# Altium footprint library Real-Time Clocks (RTCs).PcbLib: 185 footprints (part 2 of 12)
Each footprint in its own frame and in the unit in brackets; x right, y up, seen from the top. Pads: shape width x height; smd on the part's side, far side on the other; paste and mask are expansions set on the pad; w line width, h text height; cw(c..) or ccw(c..) is an arc to the next point about the centre after c.
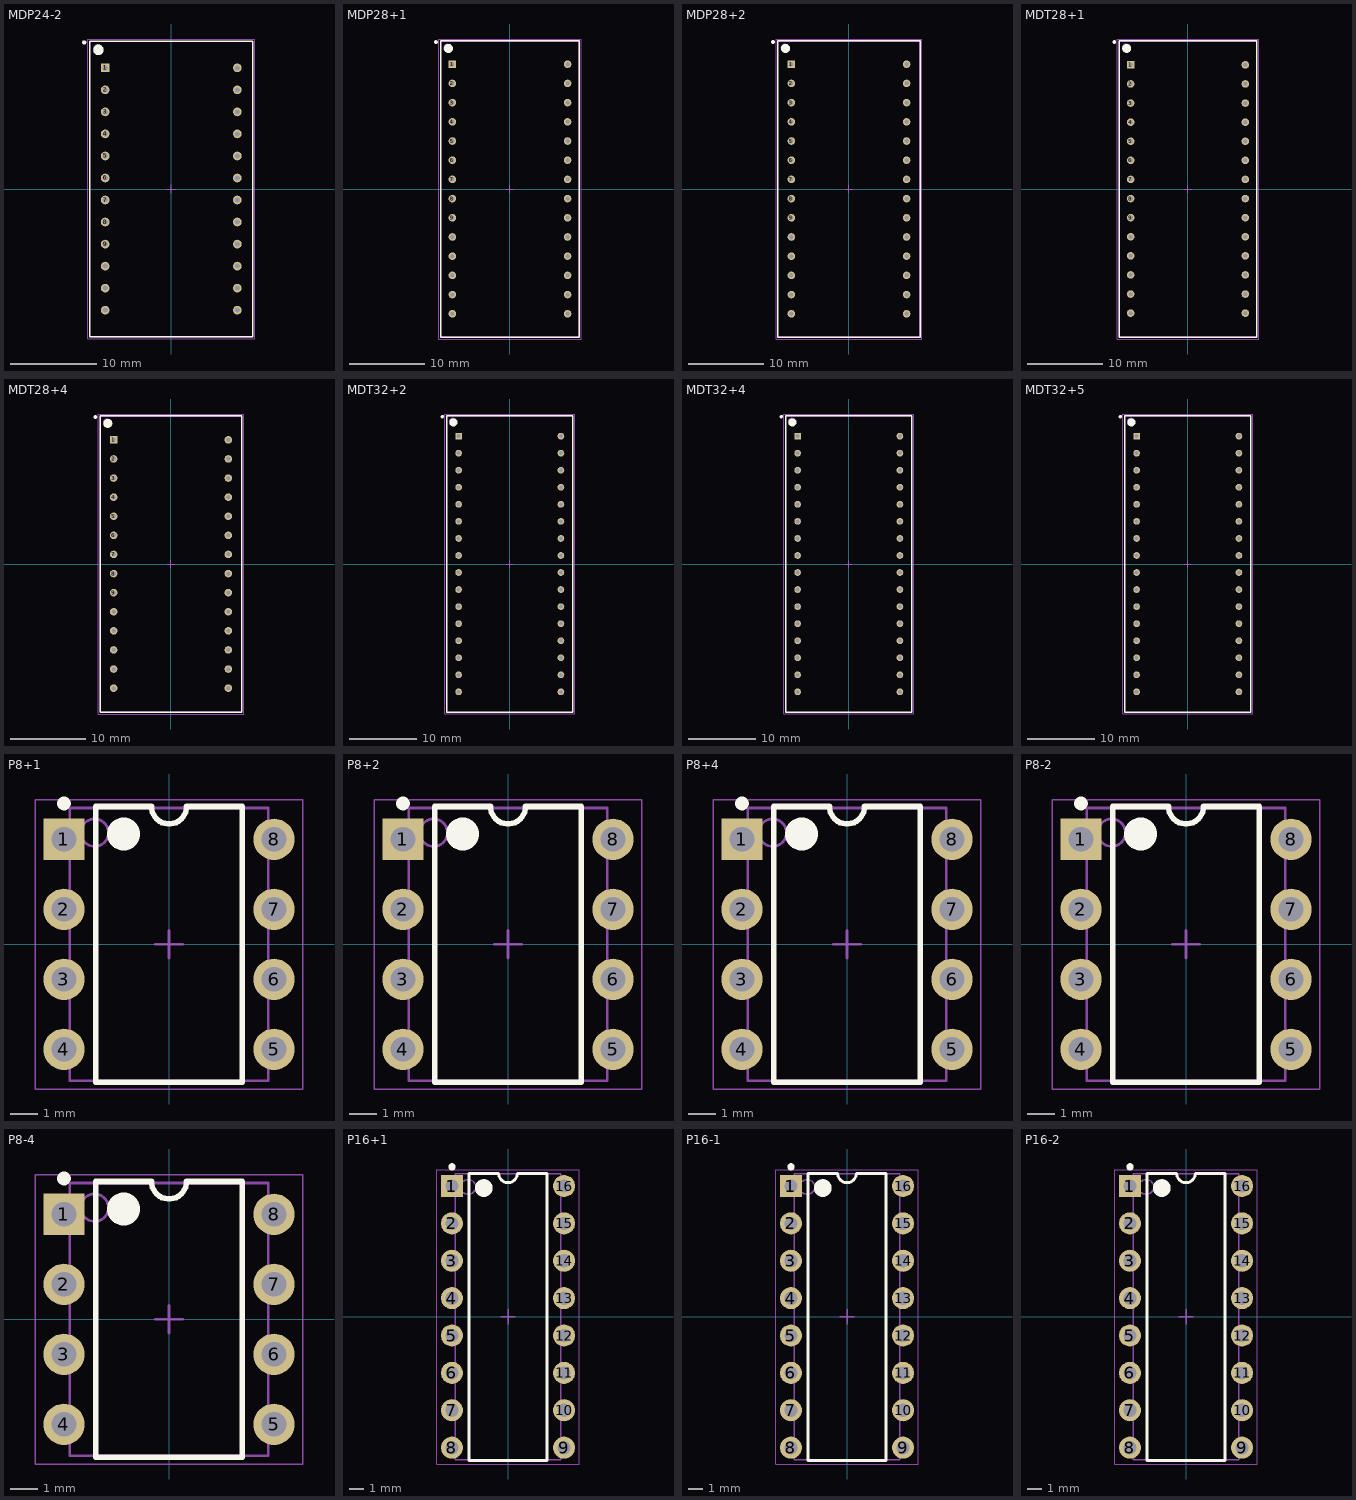
[diagram p1: the footprints below, top view; thin cyan lines are the x and y axes]

## MDP24-2 [mm] "DIP; 24 Rectangular Pins, Body 33.8x18.5mm, Row Space 15.24mm, Pitch 2.54mm"
height 9.4
pads (24):
  rect 1x1 hole 0.6: 1(-7.62,13.97)
  round 1 hole 0.6: 2(-7.62,11.43) 3(-7.62,8.89) 4(-7.62,6.35) 5(-7.62,3.81) 6(-7.62,1.27) 7(-7.62,-1.27) 8(-7.62,-3.81) 9(-7.62,-6.35) 10(-7.62,-8.89) 11(-7.62,-11.43) 12(-7.62,-13.97) 13(7.62,-13.97) 14(7.62,-11.43) 15(7.62,-8.89) 16(7.62,-6.35) 17(7.62,-3.81) 18(7.62,-1.27) 19(7.62,1.27) 20(7.62,3.81) 21(7.62,6.35) 22(7.62,8.89) 23(7.62,11.43) 24(7.62,13.97)
Top Overlay:
  circle w0.25: c-10.05,16.9 r0.125
  circle w0.6: c-8.4,16.05 r0.3
  lines w0.2: -9.4,-17.05 -9.4,17.05 9.4,17.05 9.4,-17.05 -9.4,-17.05
Mechanical 13:
  circle w0.1: c-8.5,16.125 r0.5
  lines w0.1: -9.4,-17.025 -9.4,17.025 9.4,17.025 9.4,-17.025 -9.4,-17.025
Mechanical 15:
  lines w0.05: -9.65,-17.3 -9.65,17.3 9.65,17.3 9.65,-17.3 -9.65,-17.3
  lines w0.1: -0.5,0 0.5,0 ; 0,-0.5 0,0.5
3D body: height 9.4, standoff 0.25, extent -9.4,-17.025 9.4,17.025

## MDP28+1 [mm] "DIP; 28 Rectangular Pins, Body 38.9x17.8mm, Row Space 15.24mm, Pitch 2.54mm"
height 9.4
pads (28):
  rect 1x1 hole 0.6: 1(-7.62,16.51)
  round 1 hole 0.6: 2(-7.62,13.97) 3(-7.62,11.43) 4(-7.62,8.89) 5(-7.62,6.35) 6(-7.62,3.81) 7(-7.62,1.27) 8(-7.62,-1.27) 9(-7.62,-3.81) 10(-7.62,-6.35) 11(-7.62,-8.89) 12(-7.62,-11.43) 13(-7.62,-13.97) 14(-7.62,-16.51) 15(7.62,-16.51) 16(7.62,-13.97) 17(7.62,-11.43) 18(7.62,-8.89) 19(7.62,-6.35) 20(7.62,-3.81) 21(7.62,-1.27) 22(7.62,1.27) 23(7.62,3.81) 24(7.62,6.35) 25(7.62,8.89) 26(7.62,11.43) 27(7.62,13.97) 28(7.62,16.51)
Top Overlay:
  circle w0.25: c-9.8,19.45 r0.125
  circle w0.6: c-8.15,18.6 r0.3
  lines w0.2: -9.15,-19.6 -9.15,19.6 9.15,19.6 9.15,-19.6 -9.15,-19.6
Mechanical 13:
  circle w0.1: c-8.25,18.65 r0.5
  lines w0.1: -9.15,-19.55 -9.15,19.55 9.15,19.55 9.15,-19.55 -9.15,-19.55
Mechanical 15:
  lines w0.05: -9.4,-19.85 -9.4,19.85 9.4,19.85 9.4,-19.85 -9.4,-19.85
  lines w0.1: -0.5,0 0.5,0 ; 0,-0.5 0,0.5
3D body: height 9.4, standoff 0.25, extent -9.15,-19.55 9.15,19.55

## MDP28+2 [mm] "DIP; 28 Rectangular Pins, Body 38.9x18.5mm, Row Space 15.24mm, Pitch 2.54mm"
height 9.4
pads (28):
  rect 1x1 hole 0.6: 1(-7.62,16.51)
  round 1 hole 0.6: 2(-7.62,13.97) 3(-7.62,11.43) 4(-7.62,8.89) 5(-7.62,6.35) 6(-7.62,3.81) 7(-7.62,1.27) 8(-7.62,-1.27) 9(-7.62,-3.81) 10(-7.62,-6.35) 11(-7.62,-8.89) 12(-7.62,-11.43) 13(-7.62,-13.97) 14(-7.62,-16.51) 15(7.62,-16.51) 16(7.62,-13.97) 17(7.62,-11.43) 18(7.62,-8.89) 19(7.62,-6.35) 20(7.62,-3.81) 21(7.62,-1.27) 22(7.62,1.27) 23(7.62,3.81) 24(7.62,6.35) 25(7.62,8.89) 26(7.62,11.43) 27(7.62,13.97) 28(7.62,16.51)
Top Overlay:
  circle w0.6: c-8.4,18.6 r0.3
  circle w0.25: c-10.05,19.45 r0.125
  lines w0.2: -9.4,-19.6 -9.4,19.6 9.4,19.6 9.4,-19.6 -9.4,-19.6
Mechanical 13:
  circle w0.1: c-8.5,18.65 r0.5
  lines w0.1: -9.4,-19.55 -9.4,19.55 9.4,19.55 9.4,-19.55 -9.4,-19.55
Mechanical 15:
  lines w0.05: -9.65,-19.85 -9.65,19.85 9.65,19.85 9.65,-19.85 -9.65,-19.85
  lines w0.1: -0.5,0 0.5,0 ; 0,-0.5 0,0.5
3D body: height 9.4, standoff 0.25, extent -9.4,-19.55 9.4,19.55

## MDT28+1 [mm] "DIP; 28 Rectangular Pins, Body 38.2x17.8mm, Row Space 15.24mm, Pitch 2.54mm"
height 10.67
pads (28):
  rect 1x1 hole 0.6: 1(-7.62,16.51)
  round 1 hole 0.6: 2(-7.62,13.97) 3(-7.62,11.43) 4(-7.62,8.89) 5(-7.62,6.35) 6(-7.62,3.81) 7(-7.62,1.27) 8(-7.62,-1.27) 9(-7.62,-3.81) 10(-7.62,-6.35) 11(-7.62,-8.89) 12(-7.62,-11.43) 13(-7.62,-13.97) 14(-7.62,-16.51) 15(7.62,-16.51) 16(7.62,-13.97) 17(7.62,-11.43) 18(7.62,-8.89) 19(7.62,-6.35) 20(7.62,-3.81) 21(7.62,-1.27) 22(7.62,1.27) 23(7.62,3.81) 24(7.62,6.35) 25(7.62,8.89) 26(7.62,11.43) 27(7.62,13.97) 28(7.62,16.51)
Top Overlay:
  circle w0.25: c-9.8,19.55 r0.125
  circle w0.6: c-8.15,18.7 r0.3
  lines w0.2: -9.15,-19.7 -9.15,19.7 9.15,19.7 9.15,-19.7 -9.15,-19.7
Mechanical 13:
  circle w0.1: c-8.25,18.775 r0.5
  lines w0.1: -9.15,-19.675 -9.15,19.675 9.15,19.675 9.15,-19.675 -9.15,-19.675
Mechanical 15:
  lines w0.05: -9.4,-19.95 -9.4,19.95 9.4,19.95 9.4,-19.95 -9.4,-19.95
  lines w0.1: -0.5,0 0.5,0 ; 0,-0.5 0,0.5
3D body: height 10.67, standoff 0.25, extent -9.15,-19.675 9.15,19.675

## MDT28+4 [mm] "DIP; 28 Rectangular Pins, Body 38.2x18.5mm, Row Space 15.24mm, Pitch 2.54mm"
height 10.67
pads (28):
  rect 1x1 hole 0.6: 1(-7.62,16.51)
  round 1 hole 0.6: 2(-7.62,13.97) 3(-7.62,11.43) 4(-7.62,8.89) 5(-7.62,6.35) 6(-7.62,3.81) 7(-7.62,1.27) 8(-7.62,-1.27) 9(-7.62,-3.81) 10(-7.62,-6.35) 11(-7.62,-8.89) 12(-7.62,-11.43) 13(-7.62,-13.97) 14(-7.62,-16.51) 15(7.62,-16.51) 16(7.62,-13.97) 17(7.62,-11.43) 18(7.62,-8.89) 19(7.62,-6.35) 20(7.62,-3.81) 21(7.62,-1.27) 22(7.62,1.27) 23(7.62,3.81) 24(7.62,6.35) 25(7.62,8.89) 26(7.62,11.43) 27(7.62,13.97) 28(7.62,16.51)
Top Overlay:
  circle w0.6: c-8.4,18.7 r0.3
  circle w0.25: c-10.05,19.55 r0.125
  lines w0.2: -9.4,-19.7 9.4,-19.7 9.4,19.7 -9.4,19.7 -9.4,-19.7
Mechanical 13:
  circle w0.1: c-8.5,18.775 r0.5
  lines w0.1: -9.4,-19.675 9.4,-19.675 9.4,19.675 -9.4,19.675 -9.4,-19.675
Mechanical 15:
  lines w0.05: -9.65,-19.95 9.65,-19.95 9.65,19.95 -9.65,19.95 -9.65,-19.95
  lines w0.1: -0.5,0 0.5,0 ; 0,-0.5 0,0.5
3D body: height 10.67, standoff 0.25, extent -9.4,-19.675 9.4,19.675

## MDT32+2 [mm] "DIP; 32 Rectangular Pins, Body 43.1x18.5mm, Row Space 15.24mm, Pitch 2.54mm"
height 10.93
pads (32):
  rect 1x1 hole 0.6: 1(-7.62,19.05)
  round 1 hole 0.6: 2(-7.62,16.51) 3(-7.62,13.97) 4(-7.62,11.43) 5(-7.62,8.89) 6(-7.62,6.35) 7(-7.62,3.81) 8(-7.62,1.27) 9(-7.62,-1.27) 10(-7.62,-3.81) 11(-7.62,-6.35) 12(-7.62,-8.89) 13(-7.62,-11.43) 14(-7.62,-13.97) 15(-7.62,-16.51) 16(-7.62,-19.05) 17(7.62,-19.05) 18(7.62,-16.51) 19(7.62,-13.97) 20(7.62,-11.43) 21(7.62,-8.89) 22(7.62,-6.35) 23(7.62,-3.81) 24(7.62,-1.27) 25(7.62,1.27) 26(7.62,3.81) 27(7.62,6.35) 28(7.62,8.89) 29(7.62,11.43) 30(7.62,13.97) 31(7.62,16.51) 32(7.62,19.05)
Top Overlay:
  circle w0.6: c-8.4,21.1 r0.3
  circle w0.25: c-10.05,21.95 r0.125
  lines w0.2: -9.4,-22.1 9.4,-22.1 9.4,22.1 -9.4,22.1 -9.4,-22.1
Mechanical 13:
  circle w0.1: c-8.5,21.2 r0.5
  lines w0.1: -9.4,-22.1 9.4,-22.1 9.4,22.1 -9.4,22.1 -9.4,-22.1
Mechanical 15:
  lines w0.05: -9.65,-22.35 9.65,-22.35 9.65,22.35 -9.65,22.35 -9.65,-22.35
  lines w0.1: -0.5,0 0.5,0 ; 0,-0.5 0,0.5
3D body: height 10.93, standoff 0.25, extent -9.4,-22.1 9.4,22.1

## MDT32+4 [mm] "DIP; 32 Rectangular Pins, Body 43.1x18.5mm, Row Space 15.24mm, Pitch 2.54mm"
height 10.93
pads (32):
  rect 1x1 hole 0.6: 1(-7.62,19.05)
  round 1 hole 0.6: 2(-7.62,16.51) 3(-7.62,13.97) 4(-7.62,11.43) 5(-7.62,8.89) 6(-7.62,6.35) 7(-7.62,3.81) 8(-7.62,1.27) 9(-7.62,-1.27) 10(-7.62,-3.81) 11(-7.62,-6.35) 12(-7.62,-8.89) 13(-7.62,-11.43) 14(-7.62,-13.97) 15(-7.62,-16.51) 16(-7.62,-19.05) 17(7.62,-19.05) 18(7.62,-16.51) 19(7.62,-13.97) 20(7.62,-11.43) 21(7.62,-8.89) 22(7.62,-6.35) 23(7.62,-3.81) 24(7.62,-1.27) 25(7.62,1.27) 26(7.62,3.81) 27(7.62,6.35) 28(7.62,8.89) 29(7.62,11.43) 30(7.62,13.97) 31(7.62,16.51) 32(7.62,19.05)
Top Overlay:
  circle w0.6: c-8.4,21.1 r0.3
  circle w0.25: c-10.05,21.95 r0.125
  lines w0.2: -9.4,-22.1 9.4,-22.1 9.4,22.1 -9.4,22.1 -9.4,-22.1
Mechanical 13:
  circle w0.1: c-8.5,21.2 r0.5
  lines w0.1: -9.4,-22.1 9.4,-22.1 9.4,22.1 -9.4,22.1 -9.4,-22.1
Mechanical 15:
  lines w0.05: -9.65,-22.35 9.65,-22.35 9.65,22.35 -9.65,22.35 -9.65,-22.35
  lines w0.1: -0.5,0 0.5,0 ; 0,-0.5 0,0.5
3D body: height 10.93, standoff 0.25, extent -9.4,-22.1 9.4,22.1

## MDT32+5 [mm] "DIP; 32 Rectangular Pins, Body 43.1x18.5mm, Row Space 15.24mm, Pitch 2.54mm"
height 10.93
pads (32):
  rect 1x1 hole 0.6: 1(-7.62,19.05)
  round 1 hole 0.6: 2(-7.62,16.51) 3(-7.62,13.97) 4(-7.62,11.43) 5(-7.62,8.89) 6(-7.62,6.35) 7(-7.62,3.81) 8(-7.62,1.27) 9(-7.62,-1.27) 10(-7.62,-3.81) 11(-7.62,-6.35) 12(-7.62,-8.89) 13(-7.62,-11.43) 14(-7.62,-13.97) 15(-7.62,-16.51) 16(-7.62,-19.05) 17(7.62,-19.05) 18(7.62,-16.51) 19(7.62,-13.97) 20(7.62,-11.43) 21(7.62,-8.89) 22(7.62,-6.35) 23(7.62,-3.81) 24(7.62,-1.27) 25(7.62,1.27) 26(7.62,3.81) 27(7.62,6.35) 28(7.62,8.89) 29(7.62,11.43) 30(7.62,13.97) 31(7.62,16.51) 32(7.62,19.05)
Top Overlay:
  circle w0.6: c-8.4,21.1 r0.3
  circle w0.25: c-10.05,21.95 r0.125
  lines w0.2: -9.4,-22.1 9.4,-22.1 9.4,22.1 -9.4,22.1 -9.4,-22.1
Mechanical 13:
  circle w0.1: c-8.5,21.2 r0.5
  lines w0.1: -9.4,-22.1 9.4,-22.1 9.4,22.1 -9.4,22.1 -9.4,-22.1
Mechanical 15:
  lines w0.05: -9.65,-22.35 9.65,-22.35 9.65,22.35 -9.65,22.35 -9.65,-22.35
  lines w0.1: -0.5,0 0.5,0 ; 0,-0.5 0,0.5
3D body: height 10.93, standoff 0.25, extent -9.4,-22.1 9.4,22.1

## P8+1 [mm] "DIP, 8-Leads, Row Spacing 7.62mm, Pitch 2.54mm, Body 9.4x7mm"
height 4.58
pads (8):
  rect 1.5x1.5 hole 0.9: 1(-3.81,3.81)
  round 1.5 hole 0.9: 2(-3.81,1.27) 3(-3.81,-1.27) 4(-3.81,-3.81) 5(3.81,-3.81) 6(3.81,-1.27) 7(3.81,1.27) 8(3.81,3.81)
Top Overlay:
  circle w0.25: c-3.81,5.11 r0.125
  circle w0.6: c-1.65,4 r0.3
  lines w0.2: -2.65,-5 -2.65,5 -0.635,5 ccw(c0,5) 0.635,5 2.65,5 2.65,-5 -2.65,-5
Mechanical 13:
  circle w0.1: c-2.7,4.05 r0.5
  lines w0.1: -3.6,-4.95 -3.6,4.95 3.6,4.95 3.6,-4.95 -3.6,-4.95
Mechanical 15:
  lines w0.05: -4.85,-5.25 -4.85,5.25 4.85,5.25 4.85,-5.25 -4.85,-5.25
  lines w0.1: -0.5,0 0.5,0 ; 0,-0.5 0,0.5
3D body: height 4.58, standoff 0.38, extent -3.6,-4.95 3.6,4.95

## P8+2 [mm] "DIP, 8-Leads, Row Spacing 7.62mm, Pitch 2.54mm, Body 9.4x7mm"
height 4.58
pads (8):
  rect 1.5x1.5 hole 0.9: 1(-3.81,3.81)
  round 1.5 hole 0.9: 2(-3.81,1.27) 3(-3.81,-1.27) 4(-3.81,-3.81) 5(3.81,-3.81) 6(3.81,-1.27) 7(3.81,1.27) 8(3.81,3.81)
Top Overlay:
  circle w0.25: c-3.81,5.11 r0.125
  circle w0.6: c-1.65,4 r0.3
  lines w0.2: -2.65,-5 -2.65,5 -0.635,5 ccw(c0,5) 0.635,5 2.65,5 2.65,-5 -2.65,-5
Mechanical 13:
  circle w0.1: c-2.7,4.05 r0.5
  lines w0.1: -3.6,-4.95 -3.6,4.95 3.6,4.95 3.6,-4.95 -3.6,-4.95
Mechanical 15:
  lines w0.05: -4.85,-5.25 -4.85,5.25 4.85,5.25 4.85,-5.25 -4.85,-5.25
  lines w0.1: -0.5,0 0.5,0 ; 0,-0.5 0,0.5
3D body: height 4.58, standoff 0.38, extent -3.6,-4.95 3.6,4.95

## P8+4 [mm] "DIP, 8-Leads, Row Spacing 7.62mm, Pitch 2.54mm, Body 9.4x7mm"
height 4.58
pads (8):
  rect 1.5x1.5 hole 0.9: 1(-3.81,3.81)
  round 1.5 hole 0.9: 2(-3.81,1.27) 3(-3.81,-1.27) 4(-3.81,-3.81) 5(3.81,-3.81) 6(3.81,-1.27) 7(3.81,1.27) 8(3.81,3.81)
Top Overlay:
  circle w0.6: c-1.65,4 r0.3
  circle w0.25: c-3.81,5.11 r0.125
  lines w0.2: -2.65,-5 2.65,-5 2.65,5 0.635,5 cw(c0,5) -0.635,5 -2.65,5 -2.65,-5
Mechanical 13:
  circle w0.1: c-2.7,4.05 r0.5
  lines w0.1: -3.6,-4.95 3.6,-4.95 3.6,4.95 -3.6,4.95 -3.6,-4.95
Mechanical 15:
  lines w0.05: -4.85,-5.25 4.85,-5.25 4.85,5.25 -4.85,5.25 -4.85,-5.25
  lines w0.1: -0.5,0 0.5,0 ; 0,-0.5 0,0.5
3D body: height 4.58, standoff 0.38, extent -3.6,-4.95 3.6,4.95

## P8-2 [mm] "DIP, 8-Leads, Row Spacing 7.62mm, Pitch 2.54mm, Body 9.4x7mm"
height 4.58
pads (8):
  rect 1.5x1.5 hole 0.9: 1(-3.81,3.81)
  round 1.5 hole 0.9: 2(-3.81,1.27) 3(-3.81,-1.27) 4(-3.81,-3.81) 5(3.81,-3.81) 6(3.81,-1.27) 7(3.81,1.27) 8(3.81,3.81)
Top Overlay:
  circle w0.6: c-1.65,4 r0.3
  circle w0.25: c-3.81,5.11 r0.125
  lines w0.2: -2.65,-5 2.65,-5 2.65,5 0.635,5 cw(c0,5) -0.635,5 -2.65,5 -2.65,-5
Mechanical 13:
  circle w0.1: c-2.7,4.05 r0.5
  lines w0.1: -3.6,-4.95 3.6,-4.95 3.6,4.95 -3.6,4.95 -3.6,-4.95
Mechanical 15:
  lines w0.05: -4.85,-5.25 4.85,-5.25 4.85,5.25 -4.85,5.25 -4.85,-5.25
  lines w0.1: -0.5,0 0.5,0 ; 0,-0.5 0,0.5
3D body: height 4.58, standoff 0.38, extent -3.6,-4.95 3.6,4.95

## P8-4 [mm] "DIP, 8-Leads, Row Spacing 7.62mm, Pitch 2.54mm, Body 9.4x7mm"
height 4.58
pads (8):
  rect 1.5x1.5 hole 0.9: 1(-3.81,3.81)
  round 1.5 hole 0.9: 2(-3.81,1.27) 3(-3.81,-1.27) 4(-3.81,-3.81) 5(3.81,-3.81) 6(3.81,-1.27) 7(3.81,1.27) 8(3.81,3.81)
Top Overlay:
  circle w0.25: c-3.81,5.11 r0.125
  circle w0.6: c-1.65,4 r0.3
  lines w0.2: -2.65,-5 -2.65,5 -0.635,5 ccw(c0,5) 0.635,5 2.65,5 2.65,-5 -2.65,-5
Mechanical 13:
  circle w0.1: c-2.7,4.05 r0.5
  lines w0.1: -3.6,-4.95 -3.6,4.95 3.6,4.95 3.6,-4.95 -3.6,-4.95
Mechanical 15:
  lines w0.05: -4.85,-5.25 -4.85,5.25 4.85,5.25 4.85,-5.25 -4.85,-5.25
  lines w0.1: -0.5,0 0.5,0 ; 0,-0.5 0,0.5
3D body: height 4.58, standoff 0.38, extent -3.6,-4.95 3.6,4.95

## P16+1 [mm] "DIP, 16-Leads, Row Spacing 7.62mm, Pitch 2.54mm, Body 19.2x7mm"
height 4.58
pads (16):
  rect 1.5x1.5 hole 0.9: 1(-3.81,8.89)
  round 1.5 hole 0.9: 2(-3.81,6.35) 3(-3.81,3.81) 4(-3.81,1.27) 5(-3.81,-1.27) 6(-3.81,-3.81) 7(-3.81,-6.35) 8(-3.81,-8.89) 9(3.81,-8.89) 10(3.81,-6.35) 11(3.81,-3.81) 12(3.81,-1.27) 13(3.81,1.27) 14(3.81,3.81) 15(3.81,6.35) 16(3.81,8.89)
Top Overlay:
  circle w0.25: c-3.81,10.19 r0.125
  circle w0.6: c-1.65,8.75 r0.3
  lines w0.2: -2.65,-9.75 -2.65,9.75 -0.635,9.75 ccw(c0,9.75) 0.635,9.75 2.65,9.75 2.65,-9.75 -2.65,-9.75
Mechanical 13:
  circle w0.1: c-2.7,8.825 r0.5
  lines w0.1: -3.6,-9.725 -3.6,9.725 3.6,9.725 3.6,-9.725 -3.6,-9.725
Mechanical 15:
  lines w0.05: -4.85,-10 -4.85,10 4.85,10 4.85,-10 -4.85,-10
  lines w0.1: -0.5,0 0.5,0 ; 0,-0.5 0,0.5
3D body: height 4.58, standoff 0.38, extent -3.6,-9.725 3.6,9.725

## P16-1 [mm] "DIP, 16-Leads, Row Spacing 7.62mm, Pitch 2.54mm, Body 19.2x7mm"
height 4.58
pads (16):
  rect 1.5x1.5 hole 0.9: 1(-3.81,8.89)
  round 1.5 hole 0.9: 2(-3.81,6.35) 3(-3.81,3.81) 4(-3.81,1.27) 5(-3.81,-1.27) 6(-3.81,-3.81) 7(-3.81,-6.35) 8(-3.81,-8.89) 9(3.81,-8.89) 10(3.81,-6.35) 11(3.81,-3.81) 12(3.81,-1.27) 13(3.81,1.27) 14(3.81,3.81) 15(3.81,6.35) 16(3.81,8.89)
Top Overlay:
  circle w0.25: c-3.81,10.19 r0.125
  circle w0.6: c-1.65,8.75 r0.3
  lines w0.2: -2.65,-9.75 -2.65,9.75 -0.635,9.75 ccw(c0,9.75) 0.635,9.75 2.65,9.75 2.65,-9.75 -2.65,-9.75
Mechanical 13:
  circle w0.1: c-2.7,8.825 r0.5
  lines w0.1: -3.6,-9.725 -3.6,9.725 3.6,9.725 3.6,-9.725 -3.6,-9.725
Mechanical 15:
  lines w0.05: -4.85,-10 -4.85,10 4.85,10 4.85,-10 -4.85,-10
  lines w0.1: -0.5,0 0.5,0 ; 0,-0.5 0,0.5
3D body: height 4.58, standoff 0.38, extent -3.6,-9.725 3.6,9.725

## P16-2 [mm] "DIP, 16-Leads, Row Spacing 7.62mm, Pitch 2.54mm, Body 19.2x7mm"
height 4.58
pads (16):
  rect 1.5x1.5 hole 0.9: 1(-3.81,8.89)
  round 1.5 hole 0.9: 2(-3.81,6.35) 3(-3.81,3.81) 4(-3.81,1.27) 5(-3.81,-1.27) 6(-3.81,-3.81) 7(-3.81,-6.35) 8(-3.81,-8.89) 9(3.81,-8.89) 10(3.81,-6.35) 11(3.81,-3.81) 12(3.81,-1.27) 13(3.81,1.27) 14(3.81,3.81) 15(3.81,6.35) 16(3.81,8.89)
Top Overlay:
  circle w0.25: c-3.81,10.19 r0.125
  circle w0.6: c-1.65,8.75 r0.3
  lines w0.2: -2.65,-9.75 -2.65,9.75 -0.635,9.75 ccw(c0,9.75) 0.635,9.75 2.65,9.75 2.65,-9.75 -2.65,-9.75
Mechanical 13:
  circle w0.1: c-2.7,8.825 r0.5
  lines w0.1: -3.6,-9.725 -3.6,9.725 3.6,9.725 3.6,-9.725 -3.6,-9.725
Mechanical 15:
  lines w0.05: -4.85,-10 -4.85,10 4.85,10 4.85,-10 -4.85,-10
  lines w0.1: -0.5,0 0.5,0 ; 0,-0.5 0,0.5
3D body: height 4.58, standoff 0.38, extent -3.6,-9.725 3.6,9.725